# Altium integrated library xilinx-virtex-v5.IntLib: 2 symbols (part 1 of 2)
Pins are listed as number, name and electrical type; pins without a type are passive.

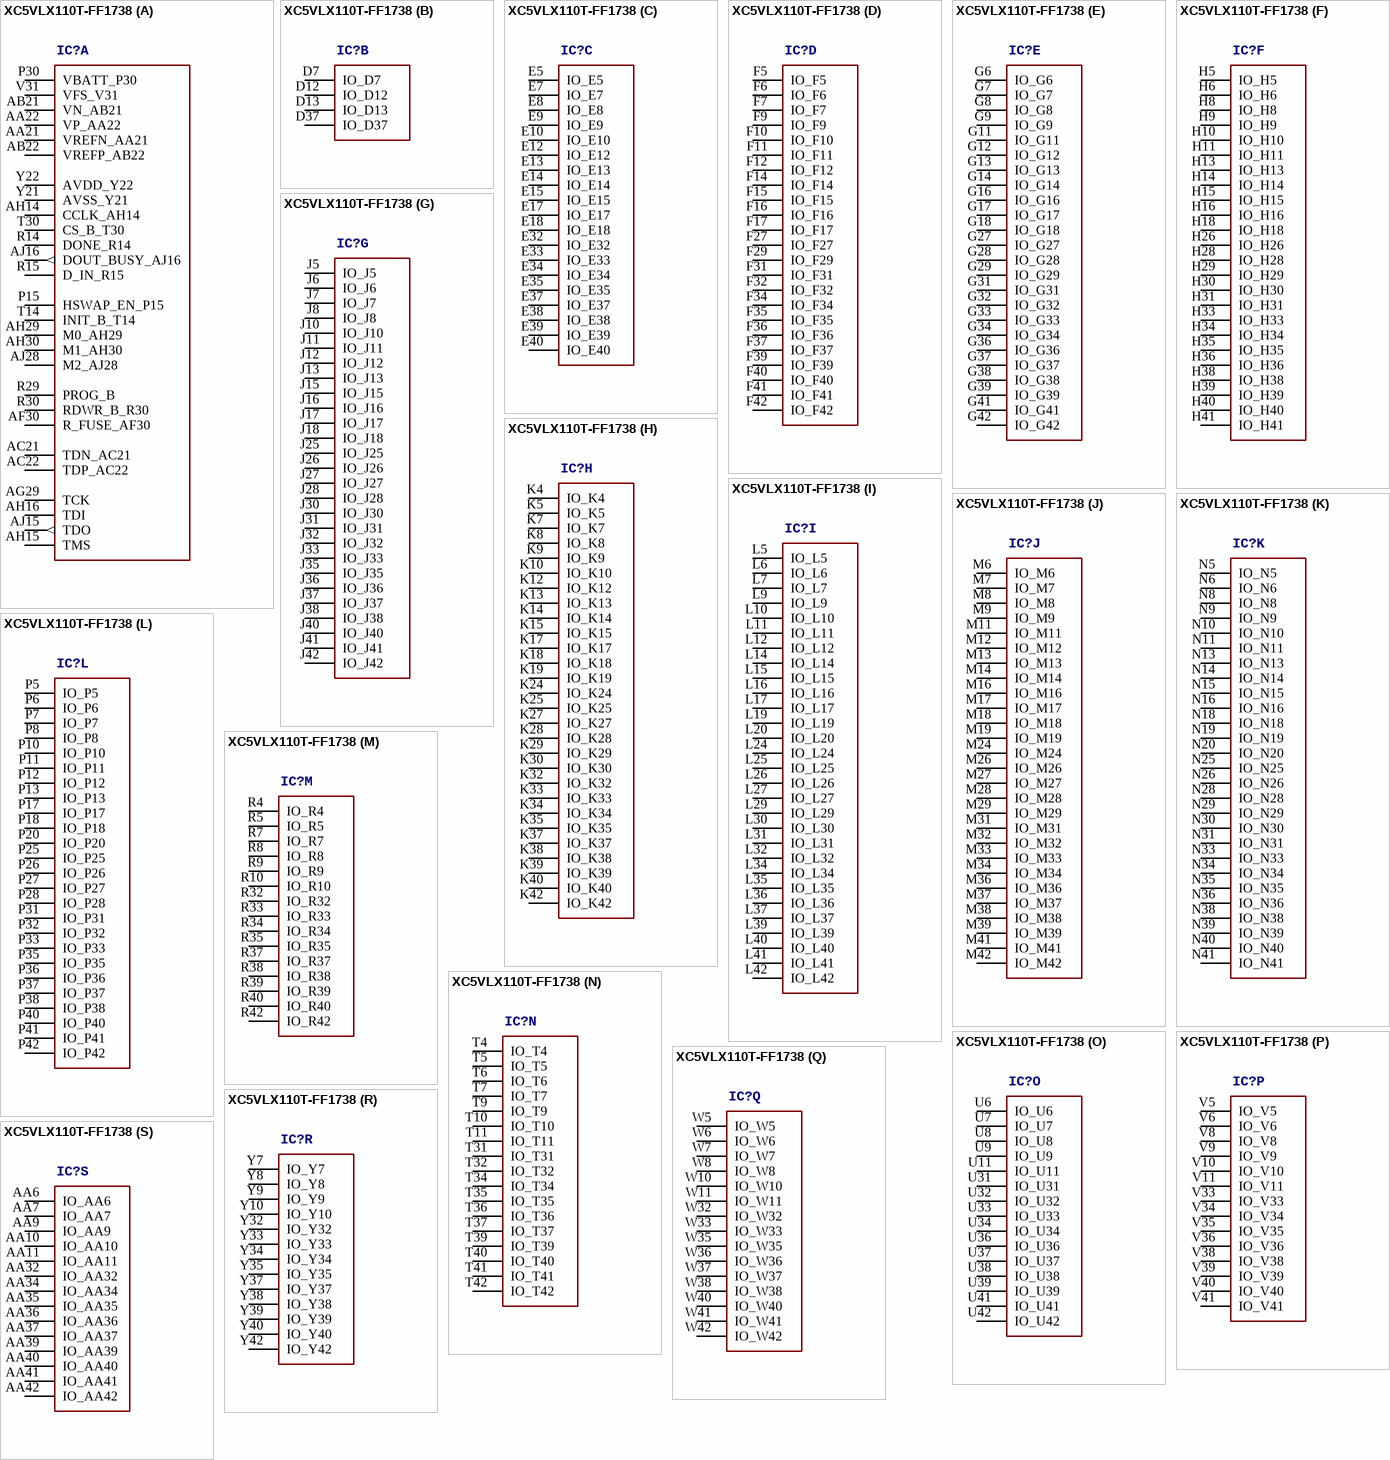
[diagram p0: symbol XC5VLX110T-FF1738]

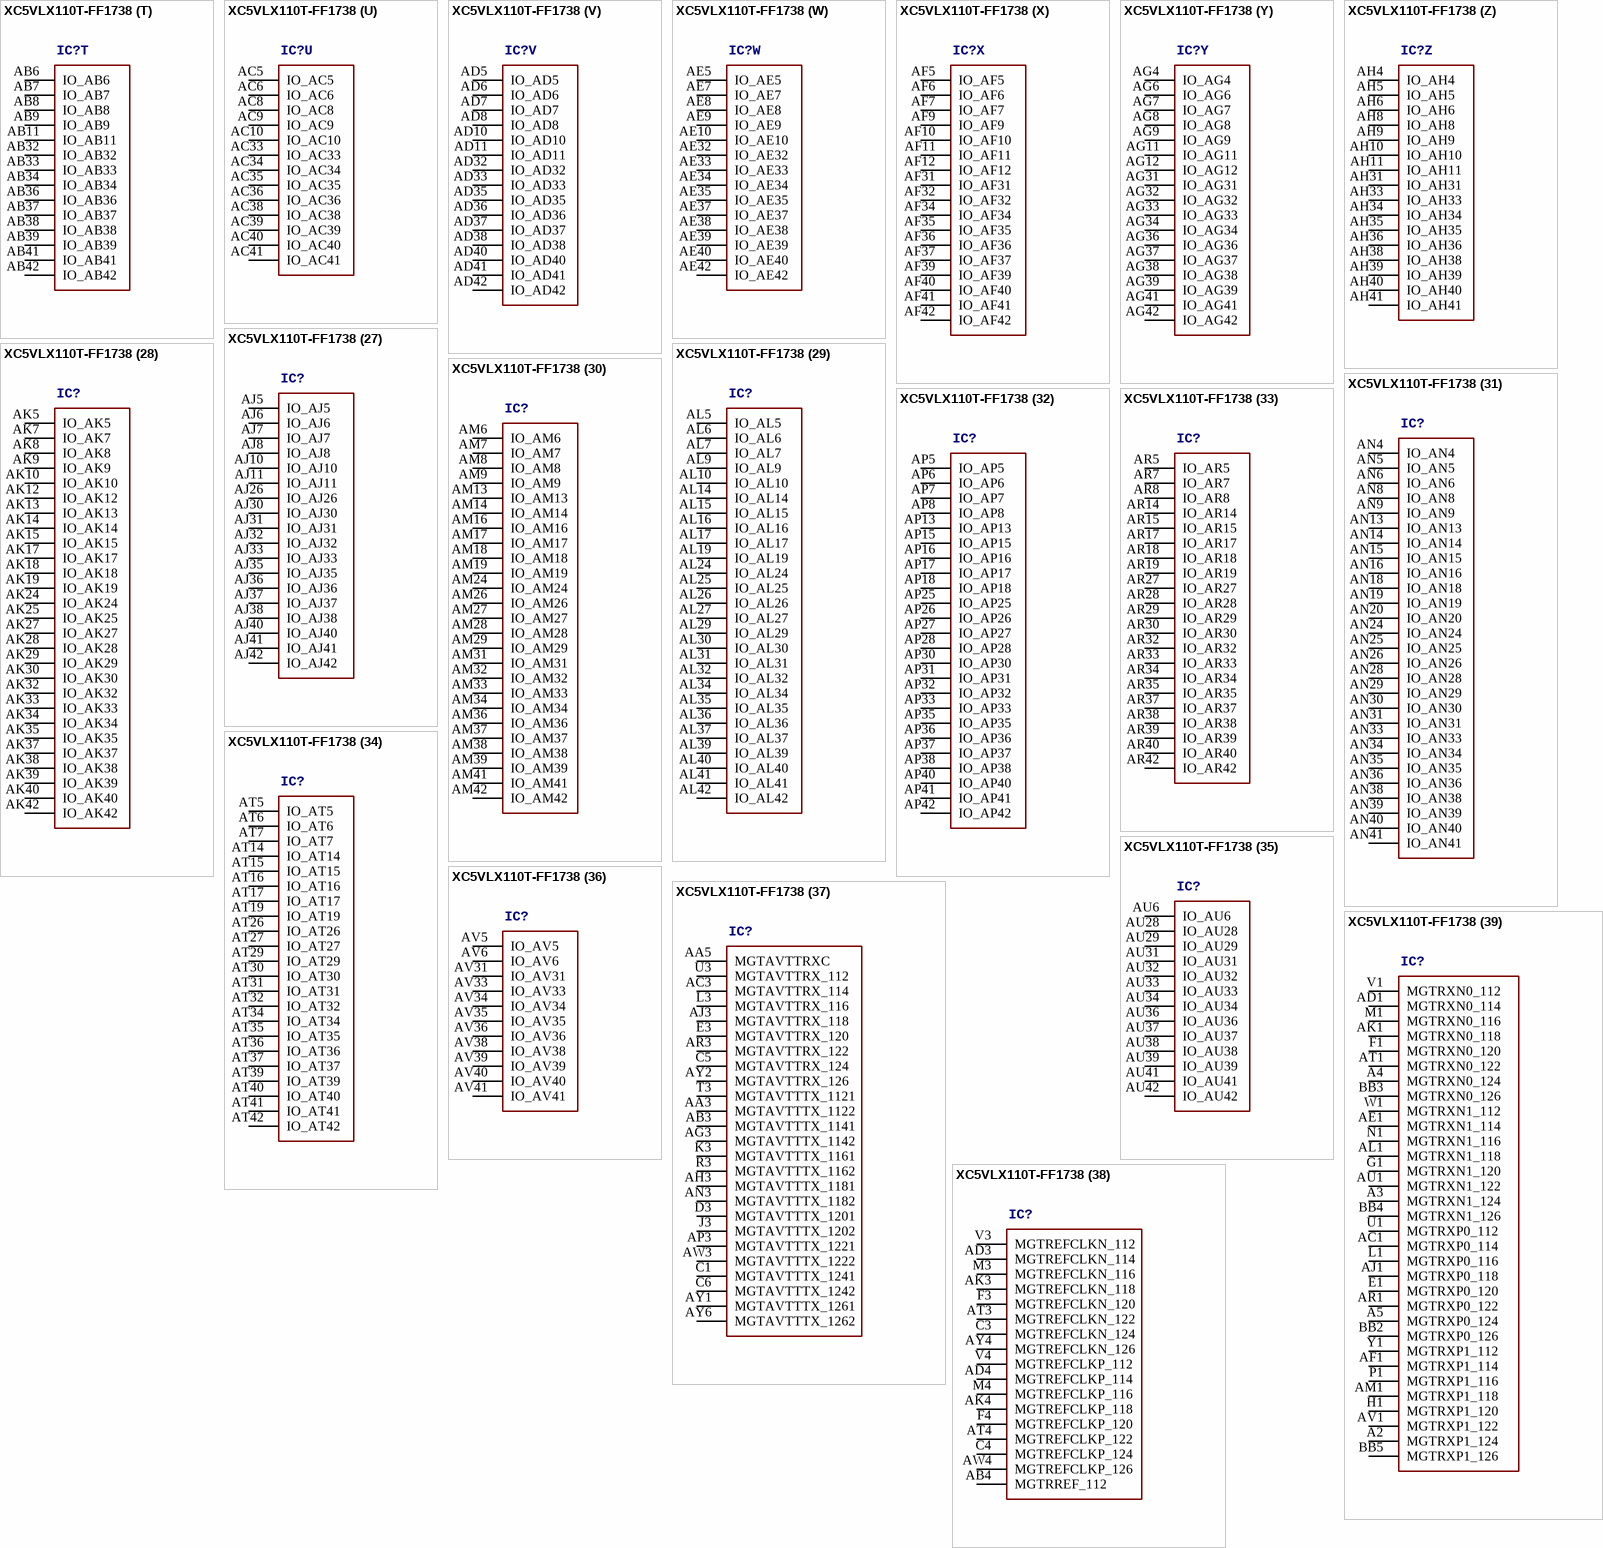
[diagram p1: symbol XC5VLX110T-FF1738]

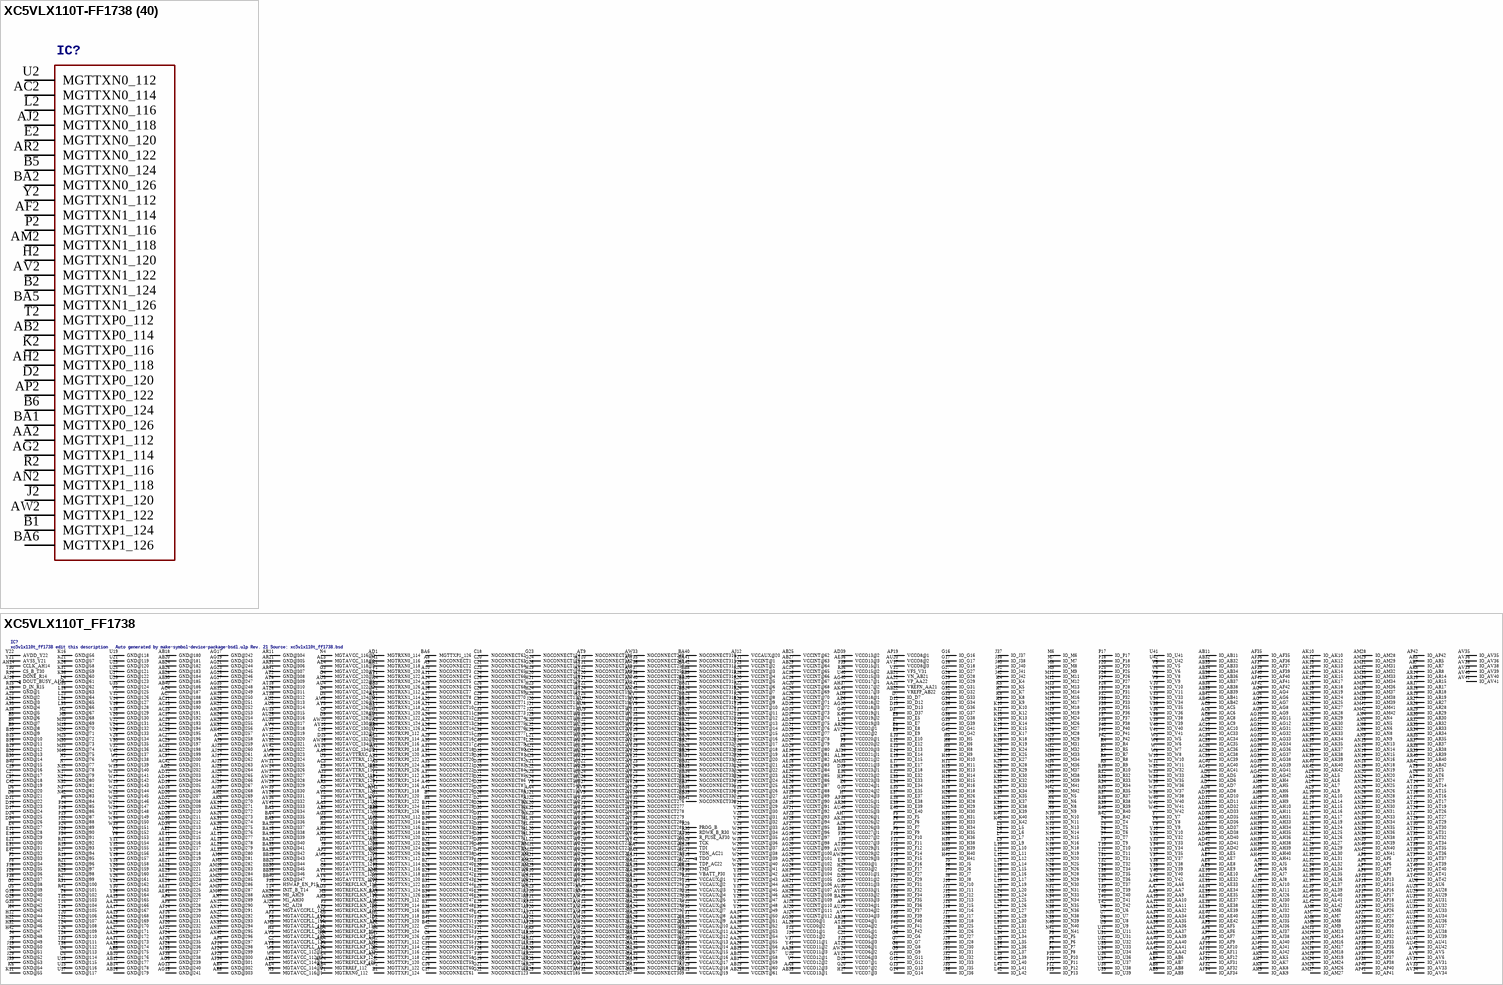
[diagram p2: symbols XC5VLX110T-FF1738 to XC5VLX110T_FF1738]

## XC5VLX110T-FF1738
designator IC?, comment xc5vlx110t_ff1738 edit this description   Auto generated by make-symbol-device-package-bsdl.ulp Rev. 21 Source: xc5vlx110t_ff1738.bsd Connect-List generated from XC5VLX110T_FF1738.DEV Variant '' with split-device-symbol.ulp
OC_FARNELL: unknown; OC_NEWARK: unknown
footprint FF1738
part A pins: AA21 VREFN_AA21, AA22 VP_AA22, AB21 VN_AB21, AB22 VREFP_AB22, AC21 TDN_AC21, AC22 TDP_AC22, AF30 R_FUSE_AF30, AG29 TCK, AH14 CCLK_AH14, AH15 TMS, AH16 TDI, AH29 M0_AH29, AH30 M1_AH30, AJ15 TDO (out), AJ16 DOUT_BUSY_AJ16 (out), AJ28 M2_AJ28, P15 HSWAP_EN_P15, P30 VBATT_P30, R14 DONE_R14, R15 D_IN_R15, R29 PROG_B, R30 RDWR_B_R30, T14 INIT_B_T14, T30 CS_B_T30, V31 VFS_V31, Y21 AVSS_Y21 (power), Y22 AVDD_Y22 (power)
part B pins: D7 IO_D7, D12 IO_D12, D13 IO_D13, D37 IO_D37
part C pins: E5 IO_E5, E7 IO_E7, E8 IO_E8, E9 IO_E9, E10 IO_E10, E12 IO_E12, E13 IO_E13, E14 IO_E14, E15 IO_E15, E17 IO_E17, E18 IO_E18, E32 IO_E32, E33 IO_E33, E34 IO_E34, E35 IO_E35, E37 IO_E37, E38 IO_E38, E39 IO_E39, E40 IO_E40
part D pins: F5 IO_F5, F6 IO_F6, F7 IO_F7, F9 IO_F9, F10 IO_F10, F11 IO_F11, F12 IO_F12, F14 IO_F14, F15 IO_F15, F16 IO_F16, F17 IO_F17, F27 IO_F27, F29 IO_F29, F31 IO_F31, F32 IO_F32, F34 IO_F34, F35 IO_F35, F36 IO_F36, F37 IO_F37, F39 IO_F39, F40 IO_F40, F41 IO_F41, F42 IO_F42
part E pins: G6 IO_G6, G7 IO_G7, G8 IO_G8, G9 IO_G9, G11 IO_G11, G12 IO_G12, G13 IO_G13, G14 IO_G14, G16 IO_G16, G17 IO_G17, G18 IO_G18, G27 IO_G27, G28 IO_G28, G29 IO_G29, G31 IO_G31, G32 IO_G32, G33 IO_G33, G34 IO_G34, G36 IO_G36, G37 IO_G37, G38 IO_G38, G39 IO_G39, G41 IO_G41, G42 IO_G42
part F pins: H5 IO_H5, H6 IO_H6, H8 IO_H8, H9 IO_H9, H10 IO_H10, H11 IO_H11, H13 IO_H13, H14 IO_H14, H15 IO_H15, H16 IO_H16, H18 IO_H18, H26 IO_H26, H28 IO_H28, H29 IO_H29, H30 IO_H30, H31 IO_H31, H33 IO_H33, H34 IO_H34, H35 IO_H35, H36 IO_H36, H38 IO_H38, H39 IO_H39, H40 IO_H40, H41 IO_H41
part G pins: J5 IO_J5, J6 IO_J6, J7 IO_J7, J8 IO_J8, J10 IO_J10, J11 IO_J11, J12 IO_J12, J13 IO_J13, J15 IO_J15, J16 IO_J16, J17 IO_J17, J18 IO_J18, J25 IO_J25, J26 IO_J26, J27 IO_J27, J28 IO_J28, J30 IO_J30, J31 IO_J31, J32 IO_J32, J33 IO_J33, J35 IO_J35, J36 IO_J36, J37 IO_J37, J38 IO_J38, J40 IO_J40, J41 IO_J41, J42 IO_J42
part H pins: K4 IO_K4, K5 IO_K5, K7 IO_K7, K8 IO_K8, K9 IO_K9, K10 IO_K10, K12 IO_K12, K13 IO_K13, K14 IO_K14, K15 IO_K15, K17 IO_K17, K18 IO_K18, K19 IO_K19, K24 IO_K24, K25 IO_K25, K27 IO_K27, K28 IO_K28, K29 IO_K29, K30 IO_K30, K32 IO_K32, K33 IO_K33, K34 IO_K34, K35 IO_K35, K37 IO_K37, K38 IO_K38, K39 IO_K39, K40 IO_K40, K42 IO_K42
part I pins: L5 IO_L5, L6 IO_L6, L7 IO_L7, L9 IO_L9, L10 IO_L10, L11 IO_L11, L12 IO_L12, L14 IO_L14, L15 IO_L15, L16 IO_L16, L17 IO_L17, L19 IO_L19, L20 IO_L20, L24 IO_L24, L25 IO_L25, L26 IO_L26, L27 IO_L27, L29 IO_L29, L30 IO_L30, L31 IO_L31, L32 IO_L32, L34 IO_L34, L35 IO_L35, L36 IO_L36, L37 IO_L37, L39 IO_L39, L40 IO_L40, L41 IO_L41, L42 IO_L42
part J pins: M6 IO_M6, M7 IO_M7, M8 IO_M8, M9 IO_M9, M11 IO_M11, M12 IO_M12, M13 IO_M13, M14 IO_M14, M16 IO_M16, M17 IO_M17, M18 IO_M18, M19 IO_M19, M24 IO_M24, M26 IO_M26, M27 IO_M27, M28 IO_M28, M29 IO_M29, M31 IO_M31, M32 IO_M32, M33 IO_M33, M34 IO_M34, M36 IO_M36, M37 IO_M37, M38 IO_M38, M39 IO_M39, M41 IO_M41, M42 IO_M42
part K pins: N5 IO_N5, N6 IO_N6, N8 IO_N8, N9 IO_N9, N10 IO_N10, N11 IO_N11, N13 IO_N13, N14 IO_N14, N15 IO_N15, N16 IO_N16, N18 IO_N18, N19 IO_N19, N20 IO_N20, N25 IO_N25, N26 IO_N26, N28 IO_N28, N29 IO_N29, N30 IO_N30, N31 IO_N31, N33 IO_N33, N34 IO_N34, N35 IO_N35, N36 IO_N36, N38 IO_N38, N39 IO_N39, N40 IO_N40, N41 IO_N41
part L pins: P5 IO_P5, P6 IO_P6, P7 IO_P7, P8 IO_P8, P10 IO_P10, P11 IO_P11, P12 IO_P12, P13 IO_P13, P17 IO_P17, P18 IO_P18, P20 IO_P20, P25 IO_P25, P26 IO_P26, P27 IO_P27, P28 IO_P28, P31 IO_P31, P32 IO_P32, P33 IO_P33, P35 IO_P35, P36 IO_P36, P37 IO_P37, P38 IO_P38, P40 IO_P40, P41 IO_P41, P42 IO_P42
part M pins: R4 IO_R4, R5 IO_R5, R7 IO_R7, R8 IO_R8, R9 IO_R9, R10 IO_R10, R32 IO_R32, R33 IO_R33, R34 IO_R34, R35 IO_R35, R37 IO_R37, R38 IO_R38, R39 IO_R39, R40 IO_R40, R42 IO_R42
part N pins: T4 IO_T4, T5 IO_T5, T6 IO_T6, T7 IO_T7, T9 IO_T9, T10 IO_T10, T11 IO_T11, T31 IO_T31, T32 IO_T32, T34 IO_T34, T35 IO_T35, T36 IO_T36, T37 IO_T37, T39 IO_T39, T40 IO_T40, T41 IO_T41, T42 IO_T42
part O pins: U6 IO_U6, U7 IO_U7, U8 IO_U8, U9 IO_U9, U11 IO_U11, U31 IO_U31, U32 IO_U32, U33 IO_U33, U34 IO_U34, U36 IO_U36, U37 IO_U37, U38 IO_U38, U39 IO_U39, U41 IO_U41, U42 IO_U42
part P pins: V5 IO_V5, V6 IO_V6, V8 IO_V8, V9 IO_V9, V10 IO_V10, V11 IO_V11, V33 IO_V33, V34 IO_V34, V35 IO_V35, V36 IO_V36, V38 IO_V38, V39 IO_V39, V40 IO_V40, V41 IO_V41
part Q pins: W5 IO_W5, W6 IO_W6, W7 IO_W7, W8 IO_W8, W10 IO_W10, W11 IO_W11, W32 IO_W32, W33 IO_W33, W35 IO_W35, W36 IO_W36, W37 IO_W37, W38 IO_W38, W40 IO_W40, W41 IO_W41, W42 IO_W42
part R pins: Y7 IO_Y7, Y8 IO_Y8, Y9 IO_Y9, Y10 IO_Y10, Y32 IO_Y32, Y33 IO_Y33, Y34 IO_Y34, Y35 IO_Y35, Y37 IO_Y37, Y38 IO_Y38, Y39 IO_Y39, Y40 IO_Y40, Y42 IO_Y42
part S pins: AA6 IO_AA6, AA7 IO_AA7, AA9 IO_AA9, AA10 IO_AA10, AA11 IO_AA11, AA32 IO_AA32, AA34 IO_AA34, AA35 IO_AA35, AA36 IO_AA36, AA37 IO_AA37, AA39 IO_AA39, AA40 IO_AA40, AA41 IO_AA41, AA42 IO_AA42
part T pins: AB6 IO_AB6, AB7 IO_AB7, AB8 IO_AB8, AB9 IO_AB9, AB11 IO_AB11, AB32 IO_AB32, AB33 IO_AB33, AB34 IO_AB34, AB36 IO_AB36, AB37 IO_AB37, AB38 IO_AB38, AB39 IO_AB39, AB41 IO_AB41, AB42 IO_AB42
part U pins: AC5 IO_AC5, AC6 IO_AC6, AC8 IO_AC8, AC9 IO_AC9, AC10 IO_AC10, AC33 IO_AC33, AC34 IO_AC34, AC35 IO_AC35, AC36 IO_AC36, AC38 IO_AC38, AC39 IO_AC39, AC40 IO_AC40, AC41 IO_AC41
part V pins: AD5 IO_AD5, AD6 IO_AD6, AD7 IO_AD7, AD8 IO_AD8, AD10 IO_AD10, AD11 IO_AD11, AD32 IO_AD32, AD33 IO_AD33, AD35 IO_AD35, AD36 IO_AD36, AD37 IO_AD37, AD38 IO_AD38, AD40 IO_AD40, AD41 IO_AD41, AD42 IO_AD42
part W pins: AE5 IO_AE5, AE7 IO_AE7, AE8 IO_AE8, AE9 IO_AE9, AE10 IO_AE10, AE32 IO_AE32, AE33 IO_AE33, AE34 IO_AE34, AE35 IO_AE35, AE37 IO_AE37, AE38 IO_AE38, AE39 IO_AE39, AE40 IO_AE40, AE42 IO_AE42
part X pins: AF5 IO_AF5, AF6 IO_AF6, AF7 IO_AF7, AF9 IO_AF9, AF10 IO_AF10, AF11 IO_AF11, AF12 IO_AF12, AF31 IO_AF31, AF32 IO_AF32, AF34 IO_AF34, AF35 IO_AF35, AF36 IO_AF36, AF37 IO_AF37, AF39 IO_AF39, AF40 IO_AF40, AF41 IO_AF41, AF42 IO_AF42
part Y pins: AG4 IO_AG4, AG6 IO_AG6, AG7 IO_AG7, AG8 IO_AG8, AG9 IO_AG9, AG11 IO_AG11, AG12 IO_AG12, AG31 IO_AG31, AG32 IO_AG32, AG33 IO_AG33, AG34 IO_AG34, AG36 IO_AG36, AG37 IO_AG37, AG38 IO_AG38, AG39 IO_AG39, AG41 IO_AG41, AG42 IO_AG42
part Z pins: AH4 IO_AH4, AH5 IO_AH5, AH6 IO_AH6, AH8 IO_AH8, AH9 IO_AH9, AH10 IO_AH10, AH11 IO_AH11, AH31 IO_AH31, AH33 IO_AH33, AH34 IO_AH34, AH35 IO_AH35, AH36 IO_AH36, AH38 IO_AH38, AH39 IO_AH39, AH40 IO_AH40, AH41 IO_AH41
part 27 pins: AJ5 IO_AJ5, AJ6 IO_AJ6, AJ7 IO_AJ7, AJ8 IO_AJ8, AJ10 IO_AJ10, AJ11 IO_AJ11, AJ26 IO_AJ26, AJ30 IO_AJ30, AJ31 IO_AJ31, AJ32 IO_AJ32, AJ33 IO_AJ33, AJ35 IO_AJ35, AJ36 IO_AJ36, AJ37 IO_AJ37, AJ38 IO_AJ38, AJ40 IO_AJ40, AJ41 IO_AJ41, AJ42 IO_AJ42
part 28 pins: AK5 IO_AK5, AK7 IO_AK7, AK8 IO_AK8, AK9 IO_AK9, AK10 IO_AK10, AK12 IO_AK12, AK13 IO_AK13, AK14 IO_AK14, AK15 IO_AK15, AK17 IO_AK17, AK18 IO_AK18, AK19 IO_AK19, AK24 IO_AK24, AK25 IO_AK25, AK27 IO_AK27, AK28 IO_AK28, AK29 IO_AK29, AK30 IO_AK30, AK32 IO_AK32, AK33 IO_AK33, AK34 IO_AK34, AK35 IO_AK35, AK37 IO_AK37, AK38 IO_AK38, AK39 IO_AK39, AK40 IO_AK40, AK42 IO_AK42
part 29 pins: AL5 IO_AL5, AL6 IO_AL6, AL7 IO_AL7, AL9 IO_AL9, AL10 IO_AL10, AL14 IO_AL14, AL15 IO_AL15, AL16 IO_AL16, AL17 IO_AL17, AL19 IO_AL19, AL24 IO_AL24, AL25 IO_AL25, AL26 IO_AL26, AL27 IO_AL27, AL29 IO_AL29, AL30 IO_AL30, AL31 IO_AL31, AL32 IO_AL32, AL34 IO_AL34, AL35 IO_AL35, AL36 IO_AL36, AL37 IO_AL37, AL39 IO_AL39, AL40 IO_AL40, AL41 IO_AL41, AL42 IO_AL42
part 30 pins: AM6 IO_AM6, AM7 IO_AM7, AM8 IO_AM8, AM9 IO_AM9, AM13 IO_AM13, AM14 IO_AM14, AM16 IO_AM16, AM17 IO_AM17, AM18 IO_AM18, AM19 IO_AM19, AM24 IO_AM24, AM26 IO_AM26, AM27 IO_AM27, AM28 IO_AM28, AM29 IO_AM29, AM31 IO_AM31, AM32 IO_AM32, AM33 IO_AM33, AM34 IO_AM34, AM36 IO_AM36, AM37 IO_AM37, AM38 IO_AM38, AM39 IO_AM39, AM41 IO_AM41, AM42 IO_AM42
part 31 pins: AN4 IO_AN4, AN5 IO_AN5, AN6 IO_AN6, AN8 IO_AN8, AN9 IO_AN9, AN13 IO_AN13, AN14 IO_AN14, AN15 IO_AN15, AN16 IO_AN16, AN18 IO_AN18, AN19 IO_AN19, AN20 IO_AN20, AN24 IO_AN24, AN25 IO_AN25, AN26 IO_AN26, AN28 IO_AN28, AN29 IO_AN29, AN30 IO_AN30, AN31 IO_AN31, AN33 IO_AN33, AN34 IO_AN34, AN35 IO_AN35, AN36 IO_AN36, AN38 IO_AN38, AN39 IO_AN39, AN40 IO_AN40, AN41 IO_AN41
part 32 pins: AP5 IO_AP5, AP6 IO_AP6, AP7 IO_AP7, AP8 IO_AP8, AP13 IO_AP13, AP15 IO_AP15, AP16 IO_AP16, AP17 IO_AP17, AP18 IO_AP18, AP25 IO_AP25, AP26 IO_AP26, AP27 IO_AP27, AP28 IO_AP28, AP30 IO_AP30, AP31 IO_AP31, AP32 IO_AP32, AP33 IO_AP33, AP35 IO_AP35, AP36 IO_AP36, AP37 IO_AP37, AP38 IO_AP38, AP40 IO_AP40, AP41 IO_AP41, AP42 IO_AP42
part 33 pins: AR5 IO_AR5, AR7 IO_AR7, AR8 IO_AR8, AR14 IO_AR14, AR15 IO_AR15, AR17 IO_AR17, AR18 IO_AR18, AR19 IO_AR19, AR27 IO_AR27, AR28 IO_AR28, AR29 IO_AR29, AR30 IO_AR30, AR32 IO_AR32, AR33 IO_AR33, AR34 IO_AR34, AR35 IO_AR35, AR37 IO_AR37, AR38 IO_AR38, AR39 IO_AR39, AR40 IO_AR40, AR42 IO_AR42
part 34 pins: AT5 IO_AT5, AT6 IO_AT6, AT7 IO_AT7, AT14 IO_AT14, AT15 IO_AT15, AT16 IO_AT16, AT17 IO_AT17, AT19 IO_AT19, AT26 IO_AT26, AT27 IO_AT27, AT29 IO_AT29, AT30 IO_AT30, AT31 IO_AT31, AT32 IO_AT32, AT34 IO_AT34, AT35 IO_AT35, AT36 IO_AT36, AT37 IO_AT37, AT39 IO_AT39, AT40 IO_AT40, AT41 IO_AT41, AT42 IO_AT42
part 35 pins: AU6 IO_AU6, AU28 IO_AU28, AU29 IO_AU29, AU31 IO_AU31, AU32 IO_AU32, AU33 IO_AU33, AU34 IO_AU34, AU36 IO_AU36, AU37 IO_AU37, AU38 IO_AU38, AU39 IO_AU39, AU41 IO_AU41, AU42 IO_AU42
part 36 pins: AV5 IO_AV5, AV6 IO_AV6, AV31 IO_AV31, AV33 IO_AV33, AV34 IO_AV34, AV35 IO_AV35, AV36 IO_AV36, AV38 IO_AV38, AV39 IO_AV39, AV40 IO_AV40, AV41 IO_AV41
part 37 pins: AA3 MGTAVTTTX_1122, AA5 MGTAVTTRXC, AB3 MGTAVTTTX_1141, AC3 MGTAVTTRX_114, AG3 MGTAVTTTX_1142, AH3 MGTAVTTTX_1181, AJ3 MGTAVTTRX_118, AN3 MGTAVTTTX_1182, AP3 MGTAVTTTX_1221, AR3 MGTAVTTRX_122, AW3 MGTAVTTTX_1222, AY1 MGTAVTTTX_1261, AY2 MGTAVTTRX_126, AY6 MGTAVTTTX_1262, C1 MGTAVTTTX_1241, C5 MGTAVTTRX_124, C6 MGTAVTTTX_1242, D3 MGTAVTTTX_1201, E3 MGTAVTTRX_120, J3 MGTAVTTTX_1202, K3 MGTAVTTTX_1161, L3 MGTAVTTRX_116, R3 MGTAVTTTX_1162, T3 MGTAVTTTX_1121, U3 MGTAVTTRX_112
part 38 pins: AB4 MGTRREF_112, AD3 MGTREFCLKN_114, AD4 MGTREFCLKP_114, AK3 MGTREFCLKN_118, AK4 MGTREFCLKP_118, AT3 MGTREFCLKN_122, AT4 MGTREFCLKP_122, AW4 MGTREFCLKP_126, AY4 MGTREFCLKN_126, C3 MGTREFCLKN_124, C4 MGTREFCLKP_124, F3 MGTREFCLKN_120, F4 MGTREFCLKP_120, M3 MGTREFCLKN_116, M4 MGTREFCLKP_116, V3 MGTREFCLKN_112, V4 MGTREFCLKP_112
part 39 pins: A2 MGTRXP1_124, A3 MGTRXN1_124, A4 MGTRXN0_124, A5 MGTRXP0_124, AC1 MGTRXP0_114, AD1 MGTRXN0_114, AE1 MGTRXN1_114, AF1 MGTRXP1_114, AJ1 MGTRXP0_118, AK1 MGTRXN0_118, AL1 MGTRXN1_118, AM1 MGTRXP1_118, AR1 MGTRXP0_122, AT1 MGTRXN0_122, AU1 MGTRXN1_122, AV1 MGTRXP1_122, BB2 MGTRXP0_126, BB3 MGTRXN0_126, BB4 MGTRXN1_126, BB5 MGTRXP1_126, E1 MGTRXP0_120, F1 MGTRXN0_120, G1 MGTRXN1_120, H1 MGTRXP1_120, L1 MGTRXP0_116, M1 MGTRXN0_116, N1 MGTRXN1_116, P1 MGTRXP1_116, U1 MGTRXP0_112, V1 MGTRXN0_112, W1 MGTRXN1_112, Y1 MGTRXP1_112
part 40 pins: AA2 MGTTXP1_112, AB2 MGTTXP0_114, AC2 MGTTXN0_114, AF2 MGTTXN1_114, AG2 MGTTXP1_114, AH2 MGTTXP0_118, AJ2 MGTTXN0_118, AM2 MGTTXN1_118, AN2 MGTTXP1_118, AP2 MGTTXP0_122, AR2 MGTTXN0_122, AV2 MGTTXN1_122, AW2 MGTTXP1_122, B1 MGTTXP1_124, B2 MGTTXN1_124, B5 MGTTXN0_124, B6 MGTTXP0_124, BA1 MGTTXP0_126, BA2 MGTTXN0_126, BA5 MGTTXN1_126, BA6 MGTTXP1_126, D2 MGTTXP0_120, E2 MGTTXN0_120, H2 MGTTXN1_120, J2 MGTTXP1_120, K2 MGTTXP0_116, L2 MGTTXN0_116, P2 MGTTXN1_116, R2 MGTTXP1_116, T2 MGTTXP0_112, U2 MGTTXN0_112, Y2 MGTTXN1_112
part 41 pins: AA14 VCCINT@50 (power), AA16 VCCINT@51 (power), AA18 VCCINT@52 (power), AA20 VCCINT@53 (power), AA24 VCCINT@54 (power), AA26 VCCINT@55 (power), AA28 VCCINT@56 (power), AB13 VCCINT@57 (power), AB15 VCCINT@58 (power), AB17 VCCINT@59 (power), AB19 VCCINT@60 (power), AB23 VCCINT@61 (power), AB25 VCCINT@62 (power), AB27 VCCINT@63 (power), AB29 VCCINT@64 (power), AC14 VCCINT@65 (power), AC16 VCCINT@66 (power), AC18 VCCINT@67 (power), AC20 VCCINT@68 (power), AC24 VCCINT@69 (power), AC26 VCCINT@70 (power), AC28 VCCINT@71 (power), AD13 VCCINT@72 (power), AD15 VCCINT@73 (power), AD17 VCCINT@74 (power), AD19 VCCINT@75 (power), AD21 VCCINT@76 (power), AD23 VCCINT@77 (power), AD25 VCCINT@78 (power), AD27 VCCINT@79 (power), AD29 VCCINT@80 (power), AE14 VCCINT@81 (power), AE16 VCCINT@82 (power), AE18 VCCINT@83 (power), AE20 VCCINT@84 (power), AE22 VCCINT@85 (power), AE24 VCCINT@86 (power), AE26 VCCINT@87 (power), AE28 VCCINT@88 (power), AF15 VCCINT@89 (power), AF17 VCCINT@90 (power), AF19 VCCINT@91 (power), AF21 VCCINT@92 (power), AF23 VCCINT@93 (power), AF25 VCCINT@94 (power), AF27 VCCINT@95 (power), AG14 VCCINT@96 (power), AG16 VCCINT@97 (power), AG18 VCCINT@98 (power), AG20 VCCINT@99 (power), AG22 VCCINT@100 (power), AG24 VCCINT@101 (power), AG26 VCCINT@102 (power), AG28 VCCINT@103 (power), AH17 VCCINT@104 (power), AH19 VCCINT@105 (power), AH21 VCCINT@106 (power), AH23 VCCINT@107 (power), AH25 VCCINT@108 (power), AH27 VCCINT@109 (power), AJ18 VCCINT@110 (power), AJ20 VCCINT@111 (power), AJ24 VCCINT@112 (power), P21 VCCINT@1 (power), P23 VCCINT@2 (power), R16 VCCINT@3 (power), R18 VCCINT@4 (power), R20 VCCINT@5 (power), R22 VCCINT@6 (power), R24 VCCINT@7 (power), R26 VCCINT@8 (power), R28 VCCINT@9 (power), T15 VCCINT@10 (power), T17 VCCINT@11 (power), T19 VCCINT@12 (power), T21 VCCINT@13 (power), T23 VCCINT@14 (power), T25 VCCINT@15 (power), T27 VCCINT@16 (power), U14 VCCINT@17 (power), U16 VCCINT@18 (power), U18 VCCINT@19 (power), U20 VCCINT@20 (power), U22 VCCINT@21 (power), U24 VCCINT@22 (power), U26 VCCINT@23 (power), U28 VCCINT@24 (power), V13 VCCINT@25 (power), V15 VCCINT@26 (power), V17 VCCINT@27 (power), V19 VCCINT@28 (power), V21 VCCINT@29 (power), V23 VCCINT@30 (power), V25 VCCINT@31 (power), V27 VCCINT@32 (power), V29 VCCINT@33 (power), W14 VCCINT@34 (power), W16 VCCINT@35 (power), W18 VCCINT@36 (power), W20 VCCINT@37 (power), W22 VCCINT@38 (power), W24 VCCINT@39 (power), W26 VCCINT@40 (power), W28 VCCINT@41 (power), Y13 VCCINT@42 (power), Y15 VCCINT@43 (power), Y17 VCCINT@44 (power), Y19 VCCINT@45 (power), Y23 VCCINT@46 (power), Y25 VCCINT@47 (power), Y27 VCCINT@48 (power), Y29 VCCINT@49 (power)
part 42 pins: AA8 VCCO12@3 (power), AA38 VCCO11@3 (power), AB35 VCCO13@1 (power), AD9 VCCO18@1 (power), AD39 VCCO13@2 (power), AE6 VCCO18@2 (power), AE36 VCCO13@3 (power), AG10 VCCO18@3 (power), AG30 VCCO0@1 (power), AG40 VCCO17@1 (power), AH7 VCCO26@1 (power), AH37 VCCO17@2 (power), AJ34 VCCO21@1 (power), AK11 VCCO26@2 (power), AK41 VCCO17@3 (power), AL8 VCCO26@3 (power), AL28 VCCO0@2 (power), AL38 VCCO21@2 (power), AM35 VCCO21@3 (power), AP9 VCCO34@1 (power), AP19 VCCO8@1 (power), AP39 VCCO25@1 (power), AR16 VCCO4@1 (power), AR26 VCCO2@1 (power), AR36 VCCO25@2 (power), AT13 VCCO4@2 (power), AT23 VCCO6@1 (power), AT33 VCCO29@1 (power), AU10 VCCO34@2 (power), AU20 VCCO8@2 (power), AU30 VCCO33@1 (power), AU40 VCCO25@3 (power), AV7 VCCO34@3 (power), AV17 VCCO8@3 (power), AV27 VCCO2@2 (power), AV37 VCCO29@2 (power), AW24 VCCO6@2 (power), AW34 VCCO29@3 (power), AY21 VCCO6@3 (power), AY31 VCCO33@2 (power), B25 VCCO5@1 (power), B35 VCCO27@1 (power), BA28 VCCO33@3 (power), C22 VCCO5@2 (power), C32 VCCO31@1 (power), D19 VCCO7@1 (power), D29 VCCO31@2 (power), D39 VCCO23@1 (power), E6 VCCO24@1 (power), E26 VCCO3@1 (power), E36 VCCO23@2 (power), F13 VCCO1@1 (power), F23 VCCO5@3 (power), F33 VCCO27@2 (power), G10 VCCO24@2 (power), G20 VCCO7@2 (power), G30 VCCO31@3 (power), G40 VCCO19@1 (power), H7 VCCO24@3 (power), H17 VCCO7@3 (power), H27 VCCO3@2 (power), H37 VCCO23@3 (power), J14 VCCO1@2 (power), J34 VCCO27@3 (power), K41 VCCO19@2 (power), L8 VCCO20@1 (power), L38 VCCO19@3 (power), P9 VCCO20@2 (power), P39 VCCO15@1 (power), R6 VCCO20@3 (power), R36 VCCO15@2 (power), U10 VCCO12@1 (power), U40 VCCO15@3 (power), V7 VCCO12@2 (power), V37 VCCO11@1 (power), Y41 VCCO11@2 (power)
part 43 pins: AA12 VCCAUX@9 (power), AA30 VCCAUX@10 (power), AB31 VCCAUX@11 (power), AC12 VCCAUX@12 (power), AC30 VCCAUX@13 (power), AD31 VCCAUX@14 (power), AE12 VCCAUX@15 (power), AE30 VCCAUX@16 (power), AF13 VCCAUX@17 (power), AF29 VCCAUX@18 (power), AH13 VCCAUX@19 (power), AJ12 VCCAUX@20 (power), R12 VCCAUX@1 (power), T13 VCCAUX@2 (power), T29 VCCAUX@3 (power), U12 VCCAUX@4 (power), U30 VCCAUX@5 (power), W12 VCCAUX@6 (power), W30 VCCAUX@7 (power), Y31 VCCAUX@8 (power)
part 44 pins: AE3 MGTAVCC_114@1 (power), AE4 MGTAVCC_114@2 (power), AL3 MGTAVCC_118@1 (power), AL4 MGTAVCC_118@2 (power), AU3 MGTAVCC_122@1 (power), AU4 MGTAVCC_122@2 (power), AW5 MGTAVCC_126@1 (power), AW10 MGTAVCC_130@1 (power), AW16 MGTAVCC_134@1 (power), AY3 MGTAVCC_126@2 (power), AY10 MGTAVCC_130@2 (power), AY16 MGTAVCC_134@2 (power), C9 MGTAVCC_128@1 (power), C15 MGTAVCC_132@1 (power), D4 MGTAVCC_124@1 (power), D5 MGTAVCC_124@2 (power), D9 MGTAVCC_128@2 (power), D15 MGTAVCC_132@2 (power), G3 MGTAVCC_120@1 (power), G4 MGTAVCC_120@2 (power), N3 MGTAVCC_116@1 (power), N4 MGTAVCC_116@2 (power), W3 MGTAVCC_112@1 (power), W4 MGTAVCC_112@2 (power)
part 45 pins: AF3 MGTAVCCPLL_114 (power), AM3 MGTAVCCPLL_118 (power), AV3 MGTAVCCPLL_122 (power), AY5 MGTAVCCPLL_126 (power), C2 MGTAVCCPLL_124 (power), H3 MGTAVCCPLL_120 (power), P3 MGTAVCCPLL_116 (power), Y3 MGTAVCCPLL_112 (power)
part 46 pins: A19 GND@1 (power), A23 GND@2 (power), A28 GND@3 (power), A33 GND@4 (power), A38 GND@5 (power), AA13 GND@165 (power), AA15 GND@166 (power), AA17 GND@167 (power), AA19 GND@168 (power), AA23 GND@169 (power), AA25 GND@170 (power), AA27 GND@171 (power), AA29 GND@172 (power), AA31 GND@173 (power), AA33 GND@174 (power), AB5 GND@175 (power), AB10 GND@176 (power), AB12 GND@177 (power), AB14 GND@178 (power), AB16 GND@179 (power), AB18 GND@180 (power), AB20 GND@181 (power), AB24 GND@182 (power), AB26 GND@183 (power), AB28 GND@184 (power), AB30 GND@185 (power), AB40 GND@186 (power), AC4 GND@187 (power), AC7 GND@188 (power), AC11 GND@189 (power), AC13 GND@190 (power), AC15 GND@191 (power), AC17 GND@192 (power), AC19 GND@193 (power), AC23 GND@194 (power), AC25 GND@195 (power), AC27 GND@196 (power), AC29 GND@197 (power), AC31 GND@198 (power), AC32 GND@199 (power), AC37 GND@200 (power), AC42 GND@201 (power), AD2 GND@202 (power), AD12 GND@203 (power), AD14 GND@204 (power), AD16 GND@205 (power), AD18 GND@206 (power), AD20 GND@207 (power), AD22 GND@208 (power), AD24 GND@209 (power), AD26 GND@210 (power), AD28 GND@211 (power), AD30 GND@212 (power), AD34 GND@213 (power), AE2 GND@214 (power), AE11 GND@215 (power), AE13 GND@216 (power), AE15 GND@217 (power), AE17 GND@218 (power), AE19 GND@219 (power), AE21 GND@220 (power), AE23 GND@221 (power), AE25 GND@222 (power), AE27 GND@223 (power), AE29 GND@224 (power), AE31 GND@225 (power), AE41 GND@226 (power), AF4 GND@227 (power), AF8 GND@228 (power), AF14 GND@229 (power), AF16 GND@230 (power), AF18 GND@231 (power), AF20 GND@232 (power), AF22 GND@233 (power), AF24 GND@234 (power), AF26 GND@235 (power), AF28 GND@236 (power), AF33 GND@237 (power), AF38 GND@238 (power), AG5 GND@239 (power), AG13 GND@240 (power), AG15 GND@241 (power), AG17 GND@242 (power), AG19 GND@243 (power), AG21 GND@244 (power), AG23 GND@245 (power), AG25 GND@246 (power), AG27 GND@247 (power), AG35 GND@248 (power), AH12 GND@249 (power), AH18 GND@250 (power), AH20 GND@251 (power), AH22 GND@252 (power), AH24 GND@253 (power), AH26 GND@254 (power), AH28 GND@255 (power), AH32 GND@256 (power), AH42 GND@257 (power), AJ4 GND@258 (power), AJ9 GND@259 (power), AJ13 GND@260 (power), AJ14 GND@261 (power), AJ17 GND@262 (power), AJ19 GND@263 (power), AJ23 GND@264 (power), AJ25 GND@265 (power), AJ27 GND@266 (power), AJ29 GND@267 (power), AJ39 GND@268 (power), AK2 GND@269 (power), AK6 GND@270 (power), AK16 GND@271 (power), AK21 GND@272 (power), AK26 GND@273 (power), AK31 GND@274 (power), AK36 GND@275 (power), AL2 GND@276 (power), AL13 GND@277 (power), AL18 GND@278 (power), AL23 GND@279 (power), AL33 GND@280 (power), AM4 GND@281 (power), AM5 GND@282 (power), AM10 GND@283 (power), AM15 GND@284 (power), AM20 GND@285 (power), AM25 GND@286 (power), AM30 GND@287 (power), AM40 GND@288 (power), AN7 GND@289 (power), AN12 GND@290 (power), AN17 GND@291 (power), AN22 GND@292 (power), AN27 GND@293 (power), AN32 GND@294 (power), AN37 GND@295 (power), AN42 GND@296 (power), AP4 GND@297 (power), AP14 GND@298 (power), AP24 GND@299 (power), AP29 GND@300 (power), AP34 GND@301 (power), AR4 GND@302 (power), AR6 GND@303 (power), AR11 GND@304 (power), AR21 GND@305 (power), AR31 GND@306 (power), AR41 GND@307 (power), AT2 GND@308 (power), AT8 GND@309 (power), AT18 GND@310 (power), AT28 GND@311 (power), AT38 GND@312 (power), AU2 GND@313 (power), AU5 GND@314 (power), AU15 GND@315 (power), AU25 GND@316 (power), AU35 GND@317 (power), AV4 GND@318 (power), AV12 GND@319 (power), AV22 GND@320 (power), AV32 GND@321 (power), AV42 GND@322 (power), AW6 GND@323 (power), AW8 GND@324 (power), AW11 GND@325 (power), AW14 GND@326 (power), AW17 GND@327 (power), AW19 GND@328 (power), AW29 GND@329 (power), AW39 GND@330 (power), AY26 GND@331 (power), AY36 GND@332 (power), AY41 GND@333 (power), B3 GND@6 (power), B4 GND@7 (power), B9 GND@8 (power), B10 GND@9 (power), B15 GND@10 (power), B16 GND@11 (power), B19 GND@12 (power), B20 GND@13 (power), B30 GND@14 (power), B40 GND@15 (power), BA3 GND@334 (power), BA4 GND@335 (power), BA9 GND@336 (power), BA10 GND@337 (power), BA15 GND@338 (power), BA16 GND@339 (power), BA23 GND@340 (power), BA33 GND@341 (power), BA38 GND@342 (power), BB19 GND@343 (power), BB25 GND@344 (power), BB30 GND@345 (power), BB35 GND@346 (power), BB40 GND@347 (power), C19 GND@16 (power), C27 GND@17 (power), C37 GND@18 (power), C42 GND@19 (power), D6 GND@20 (power), D8 GND@21 (power), D11 GND@22 (power), D14 GND@23 (power), D17 GND@24 (power), D24 GND@25 (power), D34 GND@26 (power), E4 GND@27 (power), E11 GND@28 (power), E16 GND@29 (power), E21 GND@30 (power), E31 GND@31 (power), E41 GND@32 (power), F2 GND@33 (power), F8 GND@34 (power), F18 GND@35 (power), F28 GND@36 (power), F38 GND@37 (power), G2 GND@38 (power), G5 GND@39 (power), G15 GND@40 (power), G25 GND@41 (power), G35 GND@42 (power), H4 GND@43 (power), H12 GND@44 (power), H22 GND@45 (power), H32 GND@46 (power), H42 GND@47 (power), J4 GND@48 (power), J9 GND@49 (power), J19 GND@50 (power), J24 GND@51 (power), J29 GND@52 (power), J39 GND@53 (power), K6 GND@54 (power), K11 GND@55 (power), K16 GND@56 (power), K21 GND@57 (power), K26 GND@58 (power), K31 GND@59 (power), K36 GND@60 (power), L4 GND@61 (power), L13 GND@62 (power), L18 GND@63 (power), L23 GND@64 (power), L28 GND@65 (power), L33 GND@66 (power), M2 GND@67 (power), M5 GND@68 (power), M10 GND@69 (power), M15 GND@70 (power), M20 GND@71 (power), M25 GND@72 (power), M30 GND@73 (power), M35 GND@74 (power), M40 GND@75 (power), N2 GND@76 (power), N7 GND@77 (power), N12 GND@78 (power), N17 GND@79 (power), N27 GND@80 (power), N32 GND@81 (power), N37 GND@82 (power), N42 GND@83 (power), P4 GND@84 (power), P14 GND@85 (power), P16 GND@86 (power), P19 GND@87 (power), P22 GND@88 (power), P24 GND@89 (power), P29 GND@90 (power), P34 GND@91 (power), R11 GND@92 (power), R13 GND@93 (power), R17 GND@94 (power), R19 GND@95 (power), R21 GND@96 (power), R23 GND@97 (power), R25 GND@98 (power), R27 GND@99 (power), R31 GND@100 (power), R41 GND@101 (power), T8 GND@102 (power), T12 GND@103 (power), T16 GND@104 (power), T18 GND@105 (power), T20 GND@106 (power), T22 GND@107 (power), T24 GND@108 (power), T26 GND@109 (power), T28 GND@110 (power), T33 GND@111 (power), T38 GND@112 (power), U4 GND@113 (power), U5 GND@114 (power), U13 GND@115 (power), U15 GND@116 (power), U17 GND@117 (power), U19 GND@118 (power), U21 GND@119 (power), U23 GND@120 (power), U25 GND@121 (power), U27 GND@122 (power), U29 GND@123 (power), U35 GND@124 (power), V2 GND@125 (power), V12 GND@126 (power), V14 GND@127 (power), V16 GND@128 (power), V18 GND@129 (power), V20 GND@130 (power), V22 GND@131 (power), V24 GND@132 (power), V26 GND@133 (power), V28 GND@134 (power), V30 GND@135 (power), V32 GND@136 (power), V42 GND@137 (power), W2 GND@138 (power), W9 GND@139 (power), W13 GND@140 (power), W15 GND@141 (power), W17 GND@142 (power), W19 GND@143 (power), W21 GND@144 (power), W23 GND@145 (power), W25 GND@146 (power), W27 GND@147 (power), W29 GND@148 (power), W31 GND@149 (power), W34 GND@150 (power), W39 GND@151 (power), Y4 GND@152 (power), Y6 GND@153 (power), Y11 GND@154 (power), Y12 GND@155 (power), Y14 GND@156 (power), Y16 GND@157 (power), Y18 GND@158 (power), Y20 GND@159 (power), Y24 GND@160 (power), Y26 GND@161 (power), Y28 GND@162 (power), Y30 GND@163 (power), Y36 GND@164 (power)
part 47 pins: A8 NOCONNECT1, A9 NOCONNECT2, A10 NOCONNECT3, A11 NOCONNECT4, A14 NOCONNECT5, A15 NOCONNECT6, A16 NOCONNECT7, A17 NOCONNECT8, A20 NOCONNECT9, A21 NOCONNECT10, A22 NOCONNECT11, A24 NOCONNECT12, A25 NOCONNECT13, A26 NOCONNECT14, A27 NOCONNECT15, A29 NOCONNECT16, A30 NOCONNECT17, A31 NOCONNECT18, A32 NOCONNECT19, A34 NOCONNECT20, A35 NOCONNECT21, A36 NOCONNECT22, A37 NOCONNECT23, A39 NOCONNECT24, A40 NOCONNECT25, A41 NOCONNECT26, AA4 NOCONNECT150, AJ21 NOCONNECT151, AJ22 NOCONNECT152, AK20 NOCONNECT153, AK22 NOCONNECT154, AK23 NOCONNECT155, AL11 NOCONNECT156, AL12 NOCONNECT157, AL20 NOCONNECT158, AL21 NOCONNECT159, AL22 NOCONNECT160, AM11 NOCONNECT161, AM12 NOCONNECT162, AM21 NOCONNECT163, AM22 NOCONNECT164, AM23 NOCONNECT165, AN10 NOCONNECT166, AN11 NOCONNECT167, AN21 NOCONNECT168, AN23 NOCONNECT169, AP10 NOCONNECT170, AP11 NOCONNECT171, AP12 NOCONNECT172, AP20 NOCONNECT173, AP21 NOCONNECT174, AP22 NOCONNECT175, AP23 NOCONNECT176, AR9 NOCONNECT177, AR10 NOCONNECT178, AR12 NOCONNECT179, AR13 NOCONNECT180, AR20 NOCONNECT181, AR22 NOCONNECT182, AR23 NOCONNECT183, AR24 NOCONNECT184, AR25 NOCONNECT185, AT9 NOCONNECT186, AT10 NOCONNECT187, AT11 NOCONNECT188, AT12 NOCONNECT189, AT20 NOCONNECT190, AT21 NOCONNECT191, AT22 NOCONNECT192, AT24 NOCONNECT193, AT25 NOCONNECT194, AU7 NOCONNECT195, AU8 NOCONNECT196, AU9 NOCONNECT197, AU11 NOCONNECT198, AU12 NOCONNECT199, AU13 NOCONNECT200, AU14 NOCONNECT201, AU16 NOCONNECT202, AU17 NOCONNECT203, AU18 NOCONNECT204, AU19 NOCONNECT205, AU21 NOCONNECT206, AU22 NOCONNECT207, AU23 NOCONNECT208, AU24 NOCONNECT209, AU26 NOCONNECT210, AU27 NOCONNECT211, AV8 NOCONNECT212, AV9 NOCONNECT213, AV10 NOCONNECT214, AV11 NOCONNECT215, AV13 NOCONNECT216, AV14 NOCONNECT217, AV15 NOCONNECT218, AV16 NOCONNECT219, AV18 NOCONNECT220, AV19 NOCONNECT221, AV20 NOCONNECT222, AV21 NOCONNECT223, AV23 NOCONNECT224, AV24 NOCONNECT225, AV25 NOCONNECT226, AV26 NOCONNECT227, AV28 NOCONNECT228, AV29 NOCONNECT229, AV30 NOCONNECT230, AW7 NOCONNECT231, AW9 NOCONNECT232, AW12 NOCONNECT233, AW13 NOCONNECT234, AW15 NOCONNECT235, AW18 NOCONNECT236, AW20 NOCONNECT237, AW21 NOCONNECT238, AW22 NOCONNECT239, AW23 NOCONNECT240, AW25 NOCONNECT241, AW26 NOCONNECT242, AW27 NOCONNECT243, AW28 NOCONNECT244, AW30 NOCONNECT245, AW31 NOCONNECT246, AW32 NOCONNECT247, AW33 NOCONNECT248, AW35 NOCONNECT249, AW36 NOCONNECT250, AW37 NOCONNECT251, AW38 NOCONNECT252, AW40 NOCONNECT253, AW41 NOCONNECT254, AW42 NOCONNECT255, AY7 NOCONNECT256, AY8 NOCONNECT257, AY9 NOCONNECT258, AY11 NOCONNECT259, AY12 NOCONNECT260, AY13 NOCONNECT261, AY14 NOCONNECT262, AY15 NOCONNECT263, AY17 NOCONNECT264, AY18 NOCONNECT265, AY19 NOCONNECT266, AY20 NOCONNECT267, AY22 NOCONNECT268, AY23 NOCONNECT269, AY24 NOCONNECT270, AY25 NOCONNECT271, AY27 NOCONNECT272, AY28 NOCONNECT273, AY29 NOCONNECT274, AY30 NOCONNECT275, AY32 NOCONNECT276, AY33 NOCONNECT277, AY34 NOCONNECT278, AY35 NOCONNECT279, AY37 NOCONNECT280, AY38 NOCONNECT281, AY39 NOCONNECT282, AY40 NOCONNECT283, AY42 NOCONNECT284, B7 NOCONNECT27, B8 NOCONNECT28, B11 NOCONNECT29, B12 NOCONNECT30, B13 NOCONNECT31, B14 NOCONNECT32, B17 NOCONNECT33, B18 NOCONNECT34, B21 NOCONNECT35, B22 NOCONNECT36, B23 NOCONNECT37, B24 NOCONNECT38, B26 NOCONNECT39, B27 NOCONNECT40, B28 NOCONNECT41, B29 NOCONNECT42, B31 NOCONNECT43, B32 NOCONNECT44, B33 NOCONNECT45, B34 NOCONNECT46, B36 NOCONNECT47, B37 NOCONNECT48, B38 NOCONNECT49, B39 NOCONNECT50, B41 NOCONNECT51, B42 NOCONNECT52, BA7 NOCONNECT285, BA8 NOCONNECT286, BA11 NOCONNECT287, BA12 NOCONNECT288, BA13 NOCONNECT289, BA14 NOCONNECT290, BA17 NOCONNECT291, BA18 NOCONNECT292, BA19 NOCONNECT293, BA20 NOCONNECT294, BA21 NOCONNECT295, BA22 NOCONNECT296, BA24 NOCONNECT297, BA25 NOCONNECT298, BA26 NOCONNECT299, BA27 NOCONNECT300, BA29 NOCONNECT301, BA30 NOCONNECT302, BA31 NOCONNECT303, BA32 NOCONNECT304, BA34 NOCONNECT305, BA35 NOCONNECT306, BA36 NOCONNECT307, BA37 NOCONNECT308, BA39 NOCONNECT309, BA40 NOCONNECT310, BA41 NOCONNECT311, BA42 NOCONNECT312, BB8 NOCONNECT313, BB9 NOCONNECT314, BB10 NOCONNECT315, BB11 NOCONNECT316, BB14 NOCONNECT317, BB15 NOCONNECT318, BB16 NOCONNECT319, BB17 NOCONNECT320, BB20 NOCONNECT321, BB21 NOCONNECT322, BB22 NOCONNECT323, BB23 NOCONNECT324, BB24 NOCONNECT325, BB26 NOCONNECT326, BB27 NOCONNECT327, BB28 NOCONNECT328, BB29 NOCONNECT329, BB31 NOCONNECT330, BB32 NOCONNECT331, BB33 NOCONNECT332, BB34 NOCONNECT333, BB36 NOCONNECT334, BB37 NOCONNECT335, BB38 NOCONNECT336, BB39 NOCONNECT337, BB41 NOCONNECT338, C7 NOCONNECT53, C8 NOCONNECT54, C10 NOCONNECT55, C11 NOCONNECT56, C12 NOCONNECT57, C13 NOCONNECT58, C14 NOCONNECT59, C16 NOCONNECT60, C17 NOCONNECT61, C18 NOCONNECT62, C20 NOCONNECT63, C21 NOCONNECT64, C23 NOCONNECT65, C24 NOCONNECT66, C25 NOCONNECT67, C26 NOCONNECT68, C28 NOCONNECT69, C29 NOCONNECT70, C30 NOCONNECT71, C31 NOCONNECT72, C33 NOCONNECT73, C34 NOCONNECT74, C35 NOCONNECT75, C36 NOCONNECT76, C38 NOCONNECT77, C39 NOCONNECT78, C40 NOCONNECT79, C41 NOCONNECT80, D10 NOCONNECT81, D16 NOCONNECT82, D18 NOCONNECT83, D20 NOCONNECT84, D21 NOCONNECT85, D22 NOCONNECT86, D23 NOCONNECT87, D25 NOCONNECT88, D26 NOCONNECT89, D27 NOCONNECT90, D28 NOCONNECT91, D30 NOCONNECT92, D31 NOCONNECT93, D32 NOCONNECT94, D33 NOCONNECT95, D35 NOCONNECT96, D36 NOCONNECT97, D38 NOCONNECT98, D40 NOCONNECT99, D41 NOCONNECT100, D42 NOCONNECT101, E19 NOCONNECT102, E20 NOCONNECT103, E22 NOCONNECT104, E23 NOCONNECT105, E24 NOCONNECT106, E25 NOCONNECT107, E27 NOCONNECT108, E28 NOCONNECT109, E29 NOCONNECT110, E30 NOCONNECT111, E42 NOCONNECT112, F19 NOCONNECT113, F20 NOCONNECT114, F21 NOCONNECT115, F22 NOCONNECT116, F24 NOCONNECT117, F25 NOCONNECT118, F26 NOCONNECT119, F30 NOCONNECT120, G19 NOCONNECT121, G21 NOCONNECT122, G22 NOCONNECT123, G23 NOCONNECT124, G24 NOCONNECT125, G26 NOCONNECT126, H19 NOCONNECT127, H20 NOCONNECT128, H21 NOCONNECT129, H23 NOCONNECT130, H24 NOCONNECT131, H25 NOCONNECT132, J20 NOCONNECT133, J21 NOCONNECT134, J22 NOCONNECT135, J23 NOCONNECT136, K20 NOCONNECT137, K22 NOCONNECT138, K23 NOCONNECT139, L21 NOCONNECT140, L22 NOCONNECT141, M21 NOCONNECT142, M22 NOCONNECT143, M23 NOCONNECT144, N21 NOCONNECT145, N22 NOCONNECT146, N23 NOCONNECT147, N24 NOCONNECT148, Y5 NOCONNECT149